# EAGLE library part MCP49*2 (library jhbruhn-dac)
MCP49X2 - dual channel, 8/10/12bit DAC, SPI interface, external reference Datasheet: http://ww1.microchip.com/downloads/en/DeviceDoc/22250A.pdf
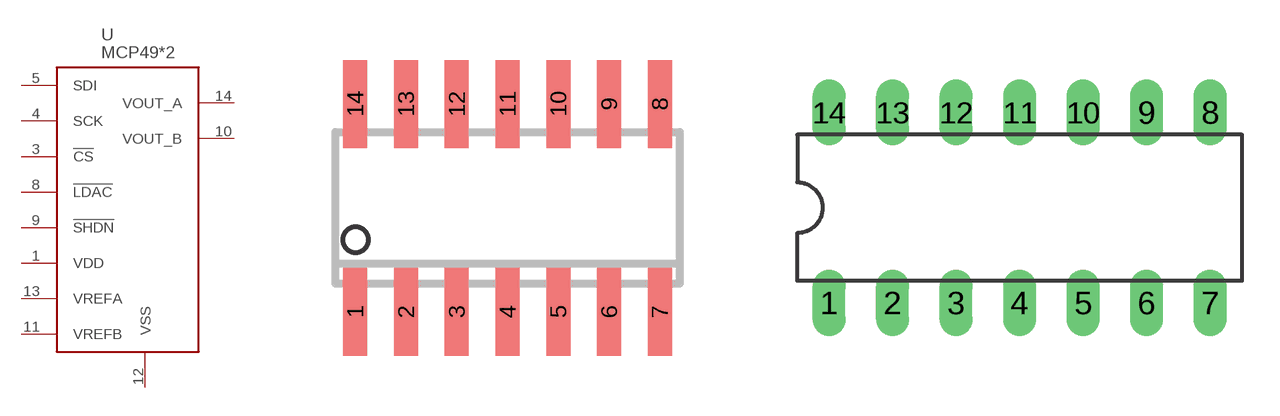
[diagram p0: symbol with the pads of SO-14; footprints SO-14, DIL14]

Designator prefix U

## MCP4902E/SL, MCP4912E/SL, MCP4922E/SL  [SO-14]
1  VDD
3  !CS
4  SCK
5  SDI
8  !LDAC
9  !SHDN
10  VOUT_B
11  VREFB
12  VSS
13  VREFA
14  VOUT_A

## MCP4902E/P, MCP4912E/P, MCP4922E/P  [DIL14]
Pads as for SO-14

## MCP4902E/ST, MCP4912E/ST, MCP4922E/ST  [TSSOP14]
Pads as for SO-14

## Footprint SO-14 (pad centres in mm)
Small Outline Narrow Plastic Gull Wing 150-mil body, package type SL
smd 0.6 x 2.2: 1 -3.81,-2.6; 2 -2.54,-2.6; 3 -1.27,-2.6; 4 0,-2.6; 5 1.27,-2.6; 6 2.54,-2.6; 7 3.81,-2.6; 8 3.81,2.6; 9 2.54,2.6; 10 1.27,2.6; 11 0,2.6; 12 -1.27,2.6; 13 -2.54,2.6; 14 -3.81,2.6

## Footprint DIL14 (pad centres in mm)
Dual In Line Package
drill 0.813 long: 1 -7.62,-3.81; 2 -5.08,-3.81; 3 -2.54,-3.81; 4 0,-3.81; 5 2.54,-3.81; 6 5.08,-3.81; 7 7.62,-3.81; 8 7.62,3.81; 9 5.08,3.81; 10 2.54,3.81; 11 0,3.81; 12 -2.54,3.81; 13 -5.08,3.81; 14 -7.62,3.81

## Footprint TSSOP14 (pad centres in mm)
plastic thin shrink small outline package; 14 leads; body width 4.4 mm SOT402-1 Source: http://www.nxp.com/documents/data_sheet/74ABT125.pdf
smd 0.35 x 0.9: 1 -1.95,-2.925; 2 -1.3,-2.925; 3 -0.65,-2.925; 4 0,-2.925; 5 0.65,-2.925; 6 1.3,-2.925; 7 1.95,-2.925; 8 1.95,2.925; 9 1.3,2.925; 10 0.65,2.925; 11 0,2.925; 12 -0.65,2.925; 13 -1.3,2.925; 14 -1.95,2.925